# EAGLE library part USB (library icnh)
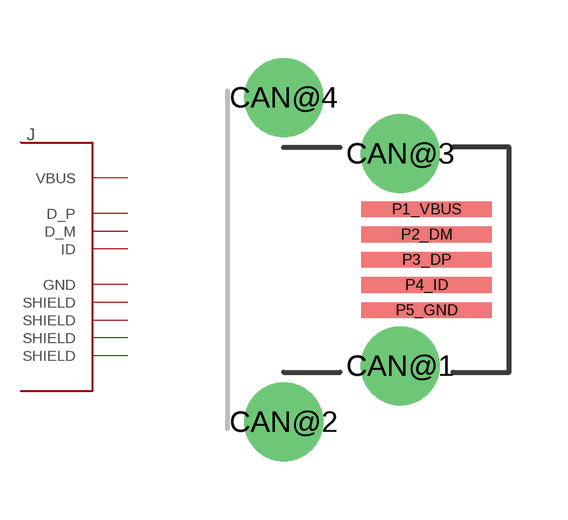
[diagram p9: symbol with the pads of MOLEX_MICRO_USB; footprint MOLEX_MICRO_USB]

Designator prefix J

## USB  [MOLEX_MICRO_USB]
CAN@1  SHIELD
CAN@2  SHIELD
CAN@3  SHIELD
CAN@4  SHIELD
P1_VBUS  VBUS
P2_DM  D_M
P3_DP  D_P
P4_ID  ID
P5_GND  GND

## Footprint MOLEX_MICRO_USB (pad centres in mm)
drill 1.35: CAN@1 3,-2.733; CAN@2 0,-4.175; CAN@3 3,2.733; CAN@4 0,4.175
smd 3.35 x 0.4: P1_VBUS 3.675,1.3; P2_DM 3.675,0.65; P3_DP 3.675,0; P4_ID 3.675,-0.65; P5_GND 3.675,-1.3